# EAGLE library part LT1961 (library linear_tech_opendcc)
LT1961 - 1.5A, 1.25MHz Step-Up Switching Regulator 1.5A Switch in a Small MSOP-8 Package Constant 1.25MHz Switching Frequency Wide Operating Voltage Range: 3V to 25V High Efficiency 0.2 Ohms Switch
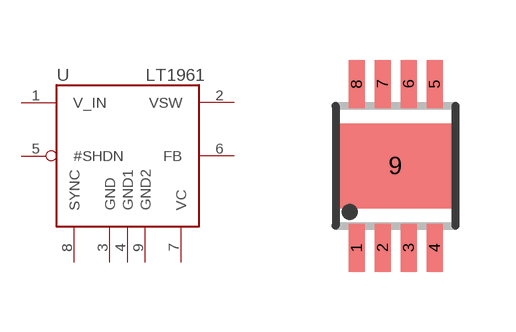
[diagram p2: symbol with the pads of MSOP8; footprint MSOP8]

Designator prefix -

## LT1961  [MSOP8]
1  V_IN  pas
2  VSW  pas
3  GND  pwr
4  GND1  pwr
5  #SHDN  pas
6  FB  pas
7  VC  pas
8  SYNC
9  GND2  pwr

## Footprint MSOP8 (pad centres in mm)
MSOP8
smd 0.4 x 1.2: 1 -0.975,-2.05; 2 -0.325,-2.05; 3 0.325,-2.05; 4 0.975,-2.05; 5 0.975,2.05; 6 0.325,2.05; 7 -0.325,2.05; 8 -0.975,2.05
smd 1.27 x 0.635: 9 0,0